# EAGLE library part 10061913-101CLF (library con-amphenol-pcie)
Check availability <https://pricing.snapeda.com/parts/10061913-101CLF/Amphenol%20ICC%20%28FCI%29/view-part?ref=eda> Check availability <https://pricing.snapeda.com/parts/10061913-101CLF/Amphenol%20ICC%20%28FCI%29/view-part?ref=eda> Check availability <https://pricing.snapeda.com/parts/10061913-101CLF/Amphenol%20ICC%20%28FCI%29/view-part?ref=eda>
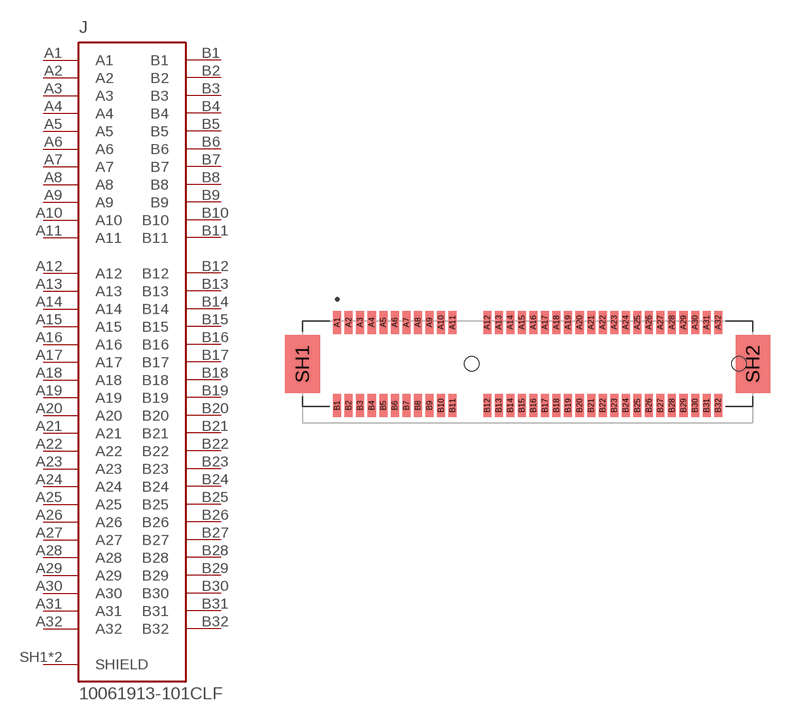
[diagram p0: symbol with the pads of 10061913-101CLF; footprint 10061913-101CLF]

Designator prefix J

## 10061913-101CLF (AVAILABILITY: In Stock; DESCRIPTION: PCI Express® GEN 3 Card Edge, Storage and Server Connector, Vertical, Surface Mount, x4, 64 Positions, 1.00mm (0.039in) Pitch; MF: Amphenol ICC (FCI); MP: 10061913-101CLF; PACKAGE: None; PRICE: None; PURCHASE-URL: https://pricing.snapeda.com/search/part/10061913-101CLF/?ref=eda)  [10061913-101CLF]
A1  A1  pas
A2  A2  pas
A3  A3  pas
A4  A4  pas
A5  A5  pas
A6  A6  pas
A7  A7  pas
A8  A8  pas
A9  A9  pas
A10  A10  pas
A11  A11  pas
A12  A12  pas
A13  A13  pas
A14  A14  pas
A15  A15  pas
A16  A16  pas
A17  A17  pas
A18  A18  pas
A19  A19  pas
A20  A20  pas
A21  A21  pas
A22  A22  pas
A23  A23  pas
A24  A24  pas
A25  A25  pas
A26  A26  pas
A27  A27  pas
A28  A28  pas
A29  A29  pas
A30  A30  pas
A31  A31  pas
A32  A32  pas
B1  B1  pas
B2  B2  pas
B3  B3  pas
B4  B4  pas
B5  B5  pas
B6  B6  pas
B7  B7  pas
B8  B8  pas
B9  B9  pas
B10  B10  pas
B11  B11  pas
B12  B12  pas
B13  B13  pas
B14  B14  pas
B15  B15  pas
B16  B16  pas
B17  B17  pas
B18  B18  pas
B19  B19  pas
B20  B20  pas
B21  B21  pas
B22  B22  pas
B23  B23  pas
B24  B24  pas
B25  B25  pas
B26  B26  pas
B27  B27  pas
B28  B28  pas
B29  B29  pas
B30  B30  pas
B31  B31  pas
B32  B32  pas
SH1  SHIELD  pas
SH2  SHIELD  pas

## Footprint 10061913-101CLF (pad centres in mm)
smd 0.7 x 2: A1 -16.5,3.6; A2 -15.5,3.6; A3 -14.5,3.6; A4 -13.5,3.6; A5 -12.5,3.6; A6 -11.5,3.6; A7 -10.5,3.6; A8 -9.5,3.6; A9 -8.5,3.6; A10 -7.5,3.6; A11 -6.5,3.6; A12 -3.5,3.6; A13 -2.5,3.6; A14 -1.5,3.6; A15 -0.5,3.6; A16 0.5,3.6; A17 1.5,3.6; A18 2.5,3.6; A19 3.5,3.6; A20 4.5,3.6; A21 5.5,3.6; A22 6.5,3.6; A23 7.5,3.6; A24 8.5,3.6; A25 9.5,3.6; A26 10.5,3.6; A27 11.5,3.6; A28 12.5,3.6; A29 13.5,3.6; A30 14.5,3.6; A31 15.5,3.6; A32 16.5,3.6; B1 -16.5,-3.6; B2 -15.5,-3.6; B3 -14.5,-3.6; B4 -13.5,-3.6; B5 -12.5,-3.6; B6 -11.5,-3.6; B7 -10.5,-3.6; B8 -9.5,-3.6; B9 -8.5,-3.6; B10 -7.5,-3.6; B11 -6.5,-3.6; B12 -3.5,-3.6; B13 -2.5,-3.6; B14 -1.5,-3.6; B15 -0.5,-3.6; B16 0.5,-3.6; B17 1.5,-3.6; B18 2.5,-3.6; B19 3.5,-3.6; B20 4.5,-3.6; B21 5.5,-3.6; B22 6.5,-3.6; B23 7.5,-3.6; B24 8.5,-3.6; B25 9.5,-3.6; B26 10.5,-3.6; B27 11.5,-3.6; B28 12.5,-3.6; B29 13.5,-3.6; B30 14.5,-3.6; B31 15.5,-3.6; B32 16.5,-3.6
smd 3 x 5: SH1 -19.5,0; SH2 19.5,0
hole 1.25 at -4.85,0
hole 1.25 at 18.3,0